# EAGLE library part M25VPS (library SUBMIND - Steckverbinder)
SUB-D
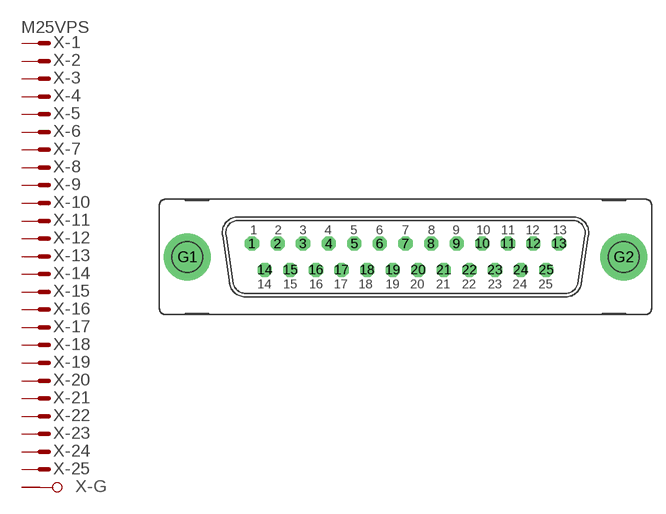
[diagram p29: symbol with the pads of M25VP; footprint M25VP]

Designator prefix X; gates -2=M -3=M -4=M -5=M -6=M -7=M -8=M -9=M -10=M -11=M -12=M -13=M -14=M -15=M -16=M -17=M -18=M -19=M -20=M -21=M -22=M -23=M -24=M -25=M -G=GND -1=MV

## M25VPS (OC_FARNELL: unknown; OC_NEWARK: unknown)  [M25VP]
1  -1:M  pas
2  -2:M  pas
3  -3:M  pas
4  -4:M  pas
5  -5:M  pas
6  -6:M  pas
7  -7:M  pas
8  -8:M  pas
9  -9:M  pas
10  -10:M  pas
11  -11:M  pas
12  -12:M  pas
13  -13:M  pas
14  -14:M  pas
15  -15:M  pas
16  -16:M  pas
17  -17:M  pas
18  -18:M  pas
19  -19:M  pas
20  -20:M  pas
21  -21:M  pas
22  -22:M  pas
23  -23:M  pas
24  -24:M  pas
25  -25:M  pas
G1  -G:G1  pas
G2  -G:G2  pas

## Footprint M25VP (pad centres in mm)
SUB-D
drill 1.016 octagon: 1 -16.561,1.422; 2 -13.792,1.422; 3 -11.049,1.422; 4 -8.28,1.422; 5 -5.512,1.422; 6 -2.769,1.422; 7 0,1.422; 8 2.769,1.422; 9 5.512,1.422; 10 8.28,1.422; 11 11.049,1.422; 12 13.792,1.422; 13 16.561,1.422; 14 -15.189,-1.422; 15 -12.421,-1.422; 16 -9.652,-1.422; 17 -6.909,-1.422; 18 -4.14,-1.422; 19 -1.372,-1.422; 20 1.372,-1.422; 21 4.14,-1.422; 22 6.909,-1.422; 23 9.652,-1.422; 24 12.421,-1.422; 25 15.189,-1.422
drill 3.302 pad 5.08: G1 -23.52,0; G2 23.52,0